# Altium footprint library 2126_AffichageMatriciel.PcbLib: 30 footprints (part 1 of 2)
Each footprint in its own frame and in the unit in brackets; x right, y up, seen from the top. Pads: shape width x height; smd on the part's side, far side on the other; paste and mask are expansions set on the pad; w line width, h text height; cw(c..) or ccw(c..) is an arc to the next point about the centre after c.
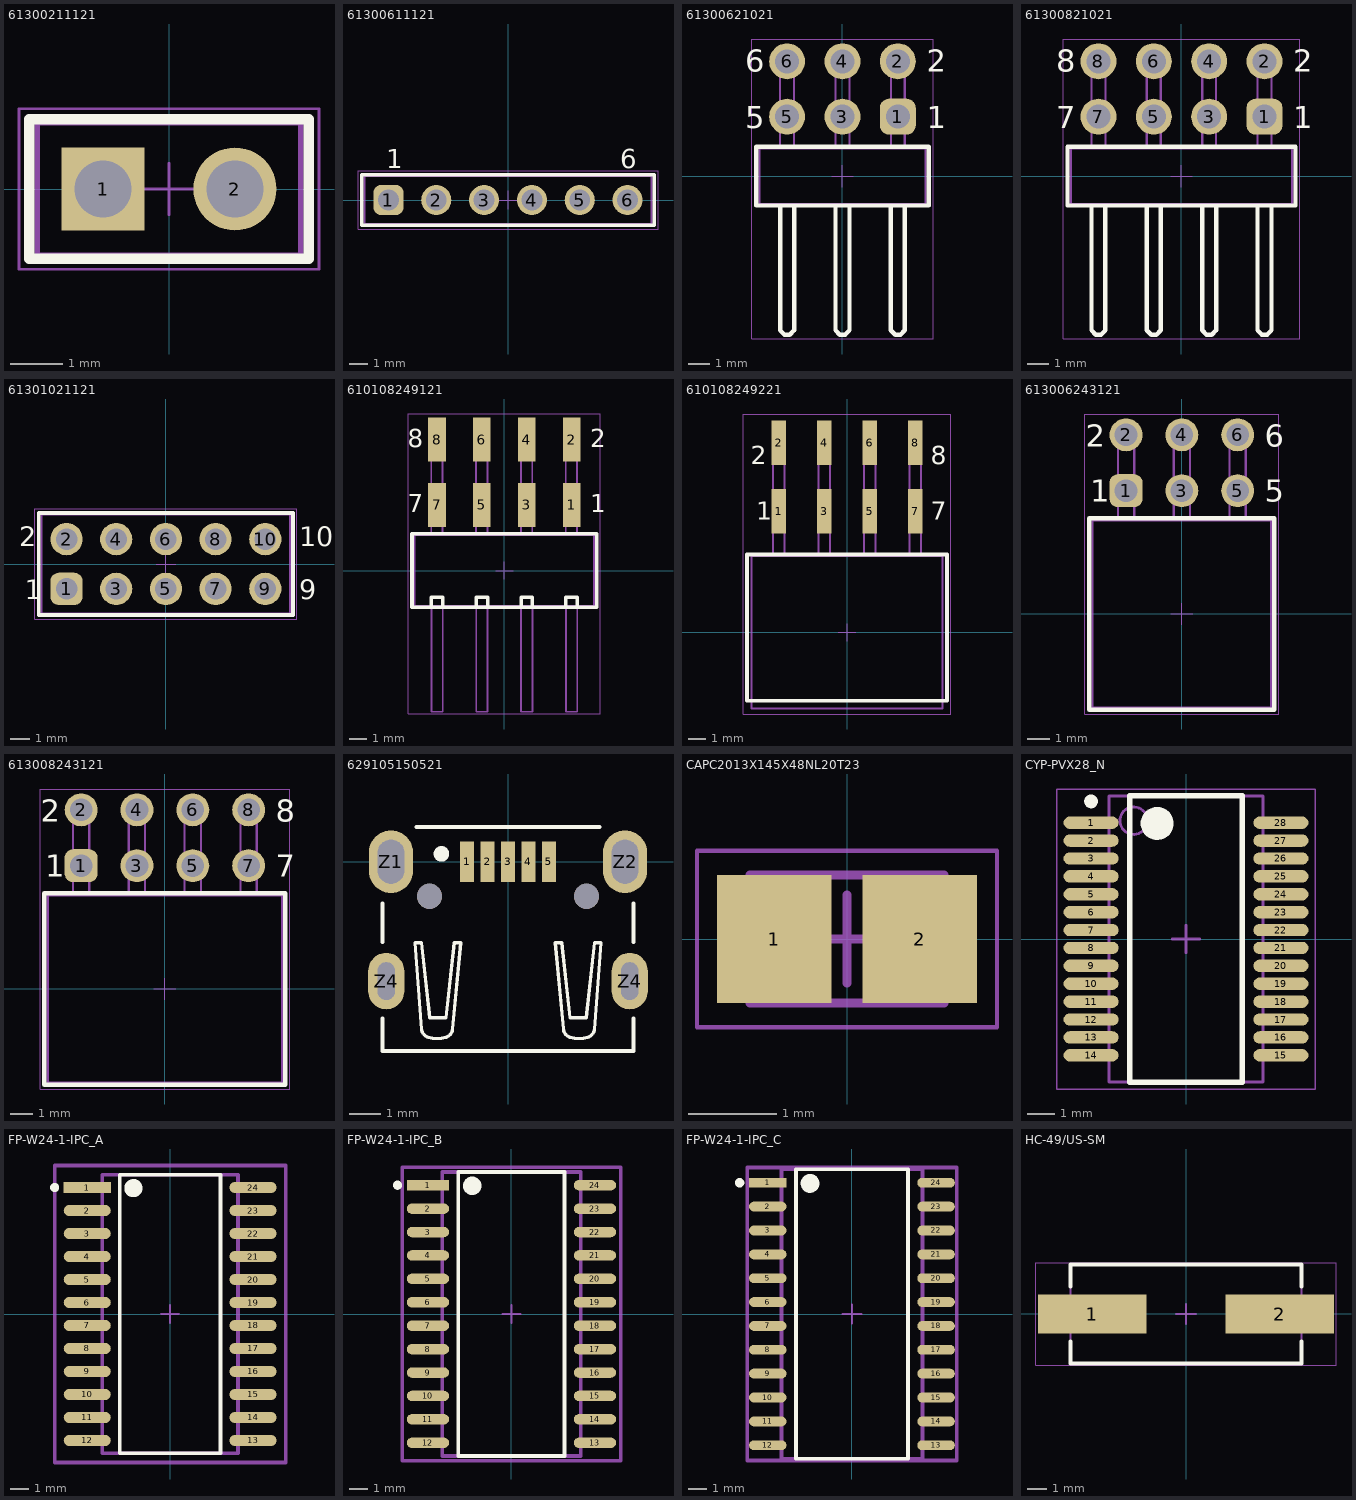
[diagram p0: the footprints below, top view; thin cyan lines are the x and y axes]

## 61300211121 [mm] "Pin Header, pitch 2.54 mm, THT, Vertical, single row, 2p"
height 8.54
pads (2):
  rect 1.6x1.6 hole 1.1: 1(-1.27,0)
  round 1.6 hole 1.1: 2(1.27,0)
Top Overlay:
  lines w0.2: -2.69,-1.345 2.69,-1.345 2.69,1.345 -2.69,1.345 -2.69,-1.345
Mechanical 13:
  lines w0.1: -2.54,-1.27 -2.54,1.27 2.54,1.27 2.54,-1.27 -2.54,-1.27
Mechanical 15:
  lines w0.05: -0.5,0 0.5,0 ; 0,-0.5 0,0.5 ; -2.89,-1.545 -2.89,1.545 2.89,1.545 2.89,-1.545 -2.89,-1.545
3D body "61300211121.stp": height 8.57, standoff -2.97, extent -2.54,-1.27 2.54,1.27

## 61300611121 [mm] "Pin Header, pitch 2.54 mm, THT, Vertical, single row, 6p"
height 8.54
pads (6):
  rrect50% 1.6x1.6 hole 1.1: 1(-6.35,0)
  round 1.6 hole 1.1: 2(-3.81,0) 3(-1.27,0) 4(1.27,0) 5(3.81,0) 6(6.35,0)
Top Overlay:
  lines w0.2: -7.77,-1.345 7.77,-1.345 7.77,1.345 -7.77,1.345 -7.77,-1.345
  text "1" at -6.47,1.7 h1.02
  text "6" at 5.97,1.7 h1.02
Top 3D Body:
  lines w0.1: -7.62,-1.27 -7.62,1.27 7.62,1.27 7.62,-1.27 -7.62,-1.27
Top Assembly:
  lines w0.1: -7.62,-1.27 -7.62,1.27 7.62,1.27 7.62,-1.27 -7.62,-1.27
  text ".Designator" at -7.498,-0.5 h1.5
Top Courtyard:
  lines w0.05: -0.5,0 0.5,0 ; 0,-0.5 0,0.5 ; -7.97,-1.545 -7.97,1.545 7.97,1.545 7.97,-1.545 -7.97,-1.545
3D body "61300611121.stp": height 8.57, standoff -2.97, extent -7.62,-1.27 7.62,1.27

## 61300621021 [mm] "Pin Header, pitch 2.54 mm, THT, Angled, dual row, 6p"
height 5.08
pads (6):
  rrect50% 1.65x1.65 hole 1.1: 1(2.54,2.73)
  round 1.65 hole 1.1: 2(2.54,5.27) 3(0,2.73) 4(0,5.27) 5(-2.54,2.73) 6(-2.54,5.27)
Top Overlay:
  lines w0.2: -2.86,-1.345 -2.86,-7.07 -2.66,-7.27 -2.42,-7.27 -2.22,-7.07 -2.22,-1.345 ; -0.32,-1.345 -0.32,-7.07 -0.12,-7.27 0.12,-7.27 0.32,-7.07 0.32,-1.345 ; 2.22,-1.345 2.22,-7.07 2.42,-7.27 2.66,-7.27 2.86,-7.07 2.86,-1.345 ; -3.96,-1.345 -3.96,1.345 3.96,1.345 3.96,-1.345 -3.96,-1.345
  text "6" at -4.47,4.8 h1.02
  text "5" at -4.47,2.2 h1.02
  text "1" at 3.87,2.2 h1.02
  text "2" at 3.87,4.8 h1.02
Top 3D Body:
  lines w0.1: -2.86,-1.27 -2.86,-7.07 -2.66,-7.27 -2.42,-7.27 -2.22,-7.07 -2.22,-1.27 ; -2.86,1.27 -2.86,5.63 -2.22,5.63 -2.22,1.27 ; -2.86,3.09 -2.22,3.09 ; -0.32,-1.27 -0.32,-7.07 -0.12,-7.27 0.12,-7.27 0.32,-7.07 0.32,-1.27 ; -0.32,1.27 -0.32,5.63 0.32,5.63 0.32,1.27 ; -0.32,3.09 0.32,3.09 ; 2.22,-1.27 2.22,-7.07 2.42,-7.27 2.66,-7.27 2.86,-7.07 2.86,-1.27 ; 2.22,1.27 2.22,5.63 2.86,5.63 2.86,1.27 ; 2.22,3.09 2.86,3.09 ; -3.81,-1.27 3.81,-1.27 3.81,1.27 -3.81,1.27 -3.81,-1.27
Top Assembly:
  lines w0.1: -2.86,-1.27 -2.86,-7.07 -2.66,-7.27 -2.42,-7.27 -2.22,-7.07 -2.22,-1.27 ; -2.86,1.27 -2.86,5.63 -2.22,5.63 -2.22,1.27 ; -2.86,3.09 -2.22,3.09 ; -0.32,-1.27 -0.32,-7.07 -0.12,-7.27 0.12,-7.27 0.32,-7.07 0.32,-1.27 ; -0.32,1.27 -0.32,5.63 0.32,5.63 0.32,1.27 ; -0.32,3.09 0.32,3.09 ; 2.22,-1.27 2.22,-7.07 2.42,-7.27 2.66,-7.27 2.86,-7.07 2.86,-1.27 ; 2.22,1.27 2.22,5.63 2.86,5.63 2.86,1.27 ; 2.22,3.09 2.86,3.09 ; -3.81,-1.27 3.81,-1.27 3.81,1.27 -3.81,1.27 -3.81,-1.27
  text ".Designator" at -7.498,-0.5 h1.5
Top Courtyard:
  lines w0.05: -0.5,0 0.5,0 ; 0,-0.5 0,0.5 ; -4.16,-7.47 -4.16,6.295 4.16,6.295 4.16,-7.47 -4.16,-7.47
3D body "61300621021.stp": height 5.12, standoff -2.96, extent -3.81,-7.27 3.81,5.63

## 61300821021 [mm] "Pin Header, pitch 2.54 mm, THT, Angled, dual row, 8p"
height 5.08
pads (8):
  rrect50% 1.65x1.65 hole 1.1: 1(3.81,2.73)
  round 1.65 hole 1.1: 2(3.81,5.27) 3(1.27,2.73) 4(1.27,5.27) 5(-1.27,2.73) 6(-1.27,5.27) 7(-3.81,2.73) 8(-3.81,5.27)
Top Overlay:
  lines w0.2: -4.13,-1.345 -4.13,-7.07 -3.93,-7.27 -3.69,-7.27 -3.49,-7.07 -3.49,-1.345 ; -1.59,-1.345 -1.59,-7.07 -1.39,-7.27 -1.15,-7.27 -0.95,-7.07 -0.95,-1.345 ; 0.95,-1.345 0.95,-7.07 1.15,-7.27 1.39,-7.27 1.59,-7.07 1.59,-1.345 ; 3.49,-1.345 3.49,-7.07 3.69,-7.27 3.93,-7.27 4.13,-7.07 4.13,-1.345 ; -5.23,-1.345 -5.23,1.345 5.23,1.345 5.23,-1.345 -5.23,-1.345
  text "1" at 5.14,2.2 h1.02
  text "2" at 5.14,4.8 h1.02
  text "7" at -5.74,2.2 h1.02
  text "8" at -5.74,4.8 h1.02
Top 3D Body:
  lines w0.1: -4.13,-1.27 -4.13,-7.07 -3.93,-7.27 -3.69,-7.27 -3.49,-7.07 -3.49,-1.27 ; -4.13,1.27 -4.13,5.63 -3.49,5.63 -3.49,1.27 ; -4.13,3.09 -3.49,3.09 ; -1.59,-1.27 -1.59,-7.07 -1.39,-7.27 -1.15,-7.27 -0.95,-7.07 -0.95,-1.27 ; -1.59,1.27 -1.59,5.63 -0.95,5.63 -0.95,1.27 ; -1.59,3.09 -0.95,3.09 ; 0.95,-1.27 0.95,-7.07 1.15,-7.27 1.39,-7.27 1.59,-7.07 1.59,-1.27 ; 0.95,1.27 0.95,5.63 1.59,5.63 1.59,1.27 ; 0.95,3.09 1.59,3.09 ; 3.49,-1.27 3.49,-7.07 3.69,-7.27 3.93,-7.27 4.13,-7.07 4.13,-1.27 ; 3.49,1.27 3.49,5.63 4.13,5.63 4.13,1.27 ; 3.49,3.09 4.13,3.09 ; -5.08,-1.27 5.08,-1.27 5.08,1.27 -5.08,1.27 -5.08,-1.27
Top Assembly:
  lines w0.1: -4.13,-1.27 -4.13,-7.07 -3.93,-7.27 -3.69,-7.27 -3.49,-7.07 -3.49,-1.27 ; -4.13,1.27 -4.13,5.63 -3.49,5.63 -3.49,1.27 ; -4.13,3.09 -3.49,3.09 ; -1.59,-1.27 -1.59,-7.07 -1.39,-7.27 -1.15,-7.27 -0.95,-7.07 -0.95,-1.27 ; -1.59,1.27 -1.59,5.63 -0.95,5.63 -0.95,1.27 ; -1.59,3.09 -0.95,3.09 ; 0.95,-1.27 0.95,-7.07 1.15,-7.27 1.39,-7.27 1.59,-7.07 1.59,-1.27 ; 0.95,1.27 0.95,5.63 1.59,5.63 1.59,1.27 ; 0.95,3.09 1.59,3.09 ; 3.49,-1.27 3.49,-7.07 3.69,-7.27 3.93,-7.27 4.13,-7.07 4.13,-1.27 ; 3.49,1.27 3.49,5.63 4.13,5.63 4.13,1.27 ; 3.49,3.09 4.13,3.09 ; -5.08,-1.27 -5.08,1.27 5.08,1.27 5.08,-1.27 -5.08,-1.27
  text ".Designator" at -7.498,-0.5 h1.5
Top Courtyard:
  lines w0.05: -0.5,0 0.5,0 ; 0,-0.5 0,0.5 ; -5.43,-7.47 -5.43,6.295 5.43,6.295 5.43,-7.47 -5.43,-7.47
3D body "61300821021.stp": height 5.12, standoff -2.96, extent -5.08,-7.27 5.08,5.63

## 61301021121 [mm] "Pin Header, pitch 2.54 mm, THT, Vertical, dual row, 10p"
height 8.54
pads (10):
  rrect50% 1.65x1.65 hole 1.1: 1(-5.08,-1.27)
  round 1.65 hole 1.1: 2(-5.08,1.27) 3(-2.54,-1.27) 4(-2.54,1.27) 5(0,-1.27) 6(0,1.27) 7(2.54,-1.27) 8(2.54,1.27) 9(5.08,-1.27) 10(5.08,1.27)
Top Overlay:
  lines w0.2: -6.5,-2.615 6.5,-2.615 6.5,2.615 -6.5,2.615 -6.5,-2.615
  text "2" at -7.51,0.9 h1.02
  text "1" at -7.21,-1.8 h1.02
  text "9" at 6.81,-1.8 h1.02
  text "10" at 6.81,0.9 h1.02
Top 3D Body:
  lines w0.1: -6.35,-2.54 6.35,-2.54 6.35,2.54 -6.35,2.54 -6.35,-2.54
Top Assembly:
  lines w0.1: -6.35,-2.54 6.35,-2.54 6.35,2.54 -6.35,2.54 -6.35,-2.54
  text ".Designator" at -7.498,-0.5 h1.5
Top Courtyard:
  lines w0.05: -0.5,0 0.5,0 ; 0,-0.5 0,0.5 ; -6.7,-2.815 -6.7,2.815 6.7,2.815 6.7,-2.815 -6.7,-2.815
3D body "61301021121.stp": height 8.59, standoff -2.95, extent -6.35,-2.54 6.35,2.54

## 610108249121 [mm] "Pin Header, pitch 2.54 mm, SMD, Angled, dual row, 8p"
height 5.08
pads (8):
  rect 1x2.5 smd: 1(3.81,3.72) 2(3.81,7.42) 3(1.27,3.72) 4(1.27,7.42) 5(-1.27,3.72) 6(-1.27,7.42) 7(-3.81,3.72) 8(-3.81,7.42)
Top Overlay:
  lines w0.2: -4.13,-2.075 -4.13,-1.524 -3.49,-1.524 -3.49,-2.075 ; -1.59,-2.075 -1.59,-1.524 -0.95,-1.524 -0.95,-2.075 ; 0.95,-2.075 0.95,-1.524 1.59,-1.524 1.59,-2.075 ; 3.49,-2.075 3.49,-1.524 4.13,-1.524 4.13,-2.075 ; -5.23,-2.075 -5.23,2.075 5.23,2.075 5.23,-2.075 -5.23,-2.075
  text "2" at 4.87,7 h1.02
  text "1" at 4.87,3.3 h1.02
  text "8" at -5.47,7 h1.02
  text "7" at -5.47,3.3 h1.02
Top 3D Body:
  lines w0.1: -4.14,2 -4.14,8.16 ; -4.14,4.135 -4.14,4.26 ; -4.14,4.48 -3.5,4.48 ; -4.14,7.535 -4.14,7.815 -4.14,8.16 ; -4.13,-2 -4.13,-8 -3.49,-8 -3.49,-2 ; -3.5,2 -3.5,8.16 ; -3.5,4.135 -3.5,4.26 ; -3.5,7.535 -3.5,7.815 -3.5,8.16 ; -1.6,2 -1.6,8.16 ; -1.6,4.135 -1.6,4.26 ; -1.6,4.48 -0.96,4.48 ; -1.6,7.535 -1.6,7.815 -1.6,8.16 ; -1.59,-2 -1.59,-8 -0.95,-8 -0.95,-2 ; -0.96,2 -0.96,8.16 ; -0.96,4.135 -0.96,4.26 ; -0.96,7.535 -0.96,7.815 -0.96,8.16 ; 0.94,2 0.94,8.16 ; 0.94,4.135 0.94,4.26 ; 0.94,4.48 1.58,4.48 ; 0.94,7.535 0.94,7.815 0.94,8.16 ; 0.95,-2 0.95,-8 1.59,-8 1.59,-2 ; 1.58,2 1.58,8.16 ; 1.58,4.135 1.58,4.26 ; 1.58,7.535 1.58,7.815 1.58,8.16 ; 3.48,2 3.48,8.16 ; 3.48,4.135 3.48,4.26 ; 3.48,4.48 4.12,4.48 ; 3.48,7.535 3.48,7.815 3.48,8.16 ; 3.49,-2 3.49,-8 4.13,-8 4.13,-2 ; 4.12,2 4.12,8.16 ; 4.12,4.135 4.12,4.26 ; 4.12,7.535 4.12,7.815 4.12,8.16 ; -4.14,8.16 -3.5,8.16 ; -1.6,8.16 -0.96,8.16 ; 0.94,8.16 1.58,8.16 ; 3.48,8.16 4.12,8.16 ; -5.08,-2 -5.08,2 5.08,2 5.08,-2 -5.08,-2
Top Assembly:
  lines w0.1: -4.14,2 -4.14,8.16 ; -4.14,4.135 -4.14,4.26 ; -4.14,4.48 -3.5,4.48 ; -4.14,7.535 -4.14,7.815 -4.14,8.16 ; -4.13,-2 -4.13,-8 -3.49,-8 -3.49,-2 ; -3.5,2 -3.5,8.16 ; -3.5,4.135 -3.5,4.26 ; -3.5,7.535 -3.5,7.815 -3.5,8.16 ; -1.6,2 -1.6,8.16 ; -1.6,4.135 -1.6,4.26 ; -1.6,4.48 -0.96,4.48 ; -1.6,7.535 -1.6,7.815 -1.6,8.16 ; -1.59,-2 -1.59,-8 -0.95,-8 -0.95,-2 ; -0.96,2 -0.96,8.16 ; -0.96,4.135 -0.96,4.26 ; -0.96,7.535 -0.96,7.815 -0.96,8.16 ; 0.94,2 0.94,8.16 ; 0.94,4.135 0.94,4.26 ; 0.94,4.48 1.58,4.48 ; 0.94,7.535 0.94,7.815 0.94,8.16 ; 0.95,-2 0.95,-8 1.59,-8 1.59,-2 ; 1.58,2 1.58,8.16 ; 1.58,4.135 1.58,4.26 ; 1.58,7.535 1.58,7.815 1.58,8.16 ; 3.48,2 3.48,8.16 ; 3.48,4.135 3.48,4.26 ; 3.48,4.48 4.12,4.48 ; 3.48,7.535 3.48,7.815 3.48,8.16 ; 3.49,-2 3.49,-8 4.13,-8 4.13,-2 ; 4.12,2 4.12,8.16 ; 4.12,4.135 4.12,4.26 ; 4.12,7.535 4.12,7.815 4.12,8.16 ; -4.14,8.16 -3.5,8.16 ; -1.6,8.16 -0.96,8.16 ; 0.94,8.16 1.58,8.16 ; 3.48,8.16 4.12,8.16 ; -5.08,-2 -5.08,2 5.08,2 5.08,-2 -5.08,-2
  text ".Designator" at -7.498,-0.5 h1.5
Top Courtyard:
  lines w0.05: -0.5,0 0.5,0 ; 0,-0.5 0,0.5 ; -5.43,-8.125 -5.43,8.87 5.43,8.87 5.43,-8.125 -5.43,-8.125
3D body "610108249121_Download_STP_610108249121_rev1Color.STEP": height 5.1, standoff 0.02, extent -5.08,-8 5.08,8.16

## 610108249221 [mm] "Socket Header, Pitch 2.54 mm, SMT, Angled, dual row, 8p"
height 5.2
pads (8):
  rect 0.8x2.5 smd: 1(-3.81,6.76) 2(-3.81,10.59) 3(-1.27,6.76) 4(-1.27,10.59) 5(1.27,6.76) 6(1.27,10.59) 7(3.81,6.76) 8(3.81,10.59)
Top Overlay:
  lines w0.2: -5.58,-3.81 -5.58,4.35 5.58,4.35 5.58,-3.81 -5.58,-3.81
  text "8" at 4.67,9.4 h1.02
  text "7" at 4.67,6.3 h1.02
  text "2" at -5.37,9.4 h1.02
  text "1" at -5.07,6.3 h1.02
Top 3D Body:
  lines w0.1: -4.13,4.25 -4.13,10.44 -3.49,10.44 -3.49,4.25 ; -4.13,7.49 -3.49,7.49 ; -1.59,4.25 -1.59,10.44 -0.95,10.44 -0.95,4.25 ; -1.59,7.49 -0.95,7.49 ; 0.95,4.25 0.95,10.44 1.59,10.44 1.59,4.25 ; 0.95,7.49 1.59,7.49 ; 3.49,4.25 3.49,10.44 4.13,10.44 4.13,4.25 ; 3.49,7.49 4.13,7.49 ; -5.33,-4.25 5.33,-4.25 5.33,4.25 -5.33,4.25 -5.33,-4.25
Top Assembly:
  lines w0.1: -4.13,4.25 -4.13,10.44 -3.49,10.44 -3.49,4.25 ; -4.13,7.49 -3.49,7.49 ; -1.59,4.25 -1.59,10.44 -0.95,10.44 -0.95,4.25 ; -1.59,7.49 -0.95,7.49 ; 0.95,4.25 0.95,10.44 1.59,10.44 1.59,4.25 ; 0.95,7.49 1.59,7.49 ; 3.49,4.25 3.49,10.44 4.13,10.44 4.13,4.25 ; 3.49,7.49 4.13,7.49 ; -5.33,-4.25 -5.33,4.25 5.33,4.25 5.33,-4.25 -5.33,-4.25
  text ".Designator" at -7.498,-0.5 h1.5
Top Courtyard:
  lines w0.05: -0.5,0 0.5,0 ; 0,-0.5 0,0.5 ; -5.78,-4.55 5.78,-4.55 5.78,12.192 -5.78,12.192 -5.78,-4.55
3D body "m20-7920442_asm.stp": height 5.03, standoff 0.03, extent -5.215,-4.15 5.195,11.25

## 613006243121 [mm] "Socket Header, Pitch 2.54 mm, THT, Angled, dual row, 6p"
height 5.08
pads (6):
  rrect50% 1.5x1.5 hole 1.03: 1(-2.54,5.61)
  round 1.5 hole 1.03: 2(-2.54,8.15) 3(0,5.61) 4(0,8.15) 5(2.54,5.61) 6(2.54,8.15)
Top Overlay:
  lines w0.2: -4.21,-4.35 4.21,-4.35 4.21,4.35 -4.21,4.35 -4.21,-4.35
  text "5" at 3.77,5.1 h1.02
  text "6" at 3.77,7.6 h1.02
  text "1" at -4.17,5.1 h1.02
  text "2" at -4.37,7.6 h1.02
Top 3D Body:
  lines w0.1: -2.91,4.25 -2.91,8.35 -2.17,8.35 -2.17,4.25 ; -2.91,5.81 -2.17,5.81 ; -0.37,4.25 -0.37,8.35 0.37,8.35 0.37,4.25 ; -0.37,5.81 0.37,5.81 ; 2.17,4.25 2.17,8.35 2.91,8.35 2.91,4.25 ; 2.17,5.81 2.91,5.81 ; -4.06,-4.25 4.06,-4.25 4.06,4.25 -4.06,4.25 -4.06,-4.25
Top Assembly:
  lines w0.1: -2.91,4.25 -2.91,8.35 -2.17,8.35 -2.17,4.25 ; -2.91,5.81 -2.17,5.81 ; -0.37,4.25 -0.37,8.35 0.37,8.35 0.37,4.25 ; -0.37,5.81 0.37,5.81 ; 2.17,4.25 2.17,8.35 2.91,8.35 2.91,4.25 ; 2.17,5.81 2.91,5.81 ; -4.06,-4.25 -4.06,4.25 4.06,4.25 4.06,-4.25 -4.06,-4.25
  text ".Designator" at -7.498,-0.5 h1.5
Top Courtyard:
  lines w0.05: -0.5,0 0.5,0 ; 0,-0.5 0,0.5 ; -4.41,-4.55 -4.41,9.1 4.41,9.1 4.41,-4.55 -4.41,-4.55
3D body "613006243121.stp": height 5.05, standoff -3.25, extent -4.06,-4.25 4.06,8.35

## 613008243121 [mm] "Socket Header, Pitch 2.54 mm, THT, Angled, dual row, 8p"
height 5.08
pads (8):
  rrect50% 1.5x1.5 hole 1.03: 1(-3.81,5.61)
  round 1.5 hole 1.03: 2(-3.81,8.15) 3(-1.27,5.61) 4(-1.27,8.15) 5(1.27,5.61) 6(1.27,8.15) 7(3.81,5.61) 8(3.81,8.15)
Top Overlay:
  lines w0.2: -5.48,-4.35 5.48,-4.35 5.48,4.35 -5.48,4.35 -5.48,-4.35
  text "7" at 5.04,5.1 h1.02
  text "8" at 5.04,7.6 h1.02
  text "1" at -5.44,5.1 h1.02
  text "2" at -5.64,7.6 h1.02
Top 3D Body:
  lines w0.1: -4.18,4.25 -4.18,8.35 -3.44,8.35 -3.44,4.25 ; -4.18,5.81 -3.44,5.81 ; -1.64,4.25 -1.64,8.35 -0.9,8.35 -0.9,4.25 ; -1.64,5.81 -0.9,5.81 ; 0.9,4.25 0.9,8.35 1.64,8.35 1.64,4.25 ; 0.9,5.81 1.64,5.81 ; 3.44,4.25 3.44,8.35 4.18,8.35 4.18,4.25 ; 3.44,5.81 4.18,5.81 ; -5.33,-4.25 5.33,-4.25 5.33,4.25 -5.33,4.25 -5.33,-4.25
Top Assembly:
  lines w0.1: -4.18,4.25 -4.18,8.35 -3.44,8.35 -3.44,4.25 ; -4.18,5.81 -3.44,5.81 ; -1.64,4.25 -1.64,8.35 -0.9,8.35 -0.9,4.25 ; -1.64,5.81 -0.9,5.81 ; 0.9,4.25 0.9,8.35 1.64,8.35 1.64,4.25 ; 0.9,5.81 1.64,5.81 ; 3.44,4.25 3.44,8.35 4.18,8.35 4.18,4.25 ; 3.44,5.81 4.18,5.81 ; -5.33,-4.25 5.33,-4.25 5.33,4.25 -5.33,4.25 -5.33,-4.25
  text ".Designator" at -7.498,-0.5 h1.5
Top Courtyard:
  lines w0.05: -0.5,0 0.5,0 ; 0,-0.5 0,0.5 ; -5.68,-4.55 -5.68,9.1 5.68,9.1 5.68,-4.55 -5.68,-4.55
3D body "613008243121.stp": height 5.05, standoff -3.25, extent -5.33,-4.25 5.33,8.35

## 629105150521 [mm] "WR-COM_USB_Micro Type B_Horizontal_SMT Micro Type B Horizontal SMT - 3A current at Pin1 & Pin 5 - with Pegs and THT shielding Pins  - T&R Packaging"
height 2.6
pads (11):
  rect 0.45x1.3 smd: 1(-1.3,0) 2(-0.65,0) 3(0,0) 4(0.65,0) 5(1.3,0)
  oval 1.4x2 hole 0.85 slot 1.4 at 90 deg: Z1(-3.725,0) Z2(3.725,0)
  oval 1.15x1.8 hole 0.55 slot 1.2 at 90 deg: Z4(-3.875,-3.8) Z4(3.875,-3.8)
  round 0.8 hole 0.8 unplated: ""(-2.5,-1.1) ""(2.5,-1.1)
Top Overlay:
  circle w0.254: c-2.12,0.25 r0.12
  lines w0.102: -2.751,-5.328 -2.959,-2.577 -2.751,-2.577 -2.492,-4.965 -1.973,-4.965 -1.713,-2.577 -1.505,-2.577 -1.765,-5.328 ; -2.751,-5.328 ccw(c-2.457,-5.306) -2.544,-5.588 ccw(c-2.258,-4.657) -1.973,-5.588 ccw(c-2.059,-5.306) -1.765,-5.328 ; 1.765,-5.328 1.505,-2.577 1.713,-2.577 1.973,-4.965 2.492,-4.965 2.751,-2.577 2.959,-2.577 2.751,-5.328 ; 1.765,-5.328 ccw(c2.059,-5.306) 1.973,-5.588 ccw(c2.258,-4.657) 2.544,-5.588 ccw(c2.457,-5.306) 2.751,-5.328
  lines w0.127: -4,-4.984 -4,-6.02 4,-6.02 4,-4.984 ; -4,-2.551 -4,-1.334 ; -2.91,1.1 2.91,1.1 ; 4,-2.551 4,-1.334
3D body "629105150521.stp": height 2.67, standoff -0.89, extent -4.001,-6.25 3.999,0.353

## CAPC2013X145X48NL20T23 [mm] "Chip Capacitor, 2-Leads, Body 2.00x1.25mm, IPC Medium Density"
height 1.45
pads (2):
  rect 1.3x1.45 smd: 1(-0.825,0) 2(0.825,0)
Mechanical 13:
  lines w0.1: -1.1,-0.725 -1.1,0.725 1.1,0.725 1.1,-0.725 -1.1,-0.725
Mechanical 15:
  lines w0.05: -1.7,-1 -1.7,1 1.7,1 1.7,-1 -1.7,-1
  lines w0.1: -0.5,0 0.5,0 ; 0,-0.5 0,0.5
3D body: height 1.45, standoff 0, extent -0.62,-0.725 0.62,0.725
3D body: height 1.45, standoff 0, extent -1.1,-0.725 -0.62,0.725
3D body: height 1.45, standoff 0, extent 0.62,-0.725 1.1,0.725

## CYP-PVX28_N [mm] "SOP, 28-Leads, Body 10.2x5.3mm, Pitch 0.65mm, IPC Medium Density"
height 2
pads (28):
  oval 2x0.45 smd: 1(-3.45,4.225) 2(-3.45,3.575) 3(-3.45,2.925) 4(-3.45,2.275) 5(-3.45,1.625) 6(-3.45,0.975) 7(-3.45,0.325) 8(-3.45,-0.325) 9(-3.45,-0.975) 10(-3.45,-1.625) 11(-3.45,-2.275) 12(-3.45,-2.925) 13(-3.45,-3.575) 14(-3.45,-4.225) 15(3.45,-4.225) 16(3.45,-3.575) 17(3.45,-2.925) 18(3.45,-2.275) 19(3.45,-1.625) 20(3.45,-0.975) 21(3.45,-0.325) 22(3.45,0.325) 23(3.45,0.975) 24(3.45,1.625) 25(3.45,2.275) 26(3.45,2.925) 27(3.45,3.575) 28(3.45,4.225)
Top Overlay:
  circle w0.25: c-3.45,5 r0.125
  circle w0.6: c-1.05,4.2 r0.3
  lines w0.2: -2.05,-5.2 -2.05,5.2 2.05,5.2 2.05,-5.2 -2.05,-5.2
Mechanical 13:
  circle w0.1: c-1.9,4.3 r0.5
  lines w0.1: -2.8,-5.2 -2.8,5.2 2.8,5.2 2.8,-5.2 -2.8,-5.2
Mechanical 15:
  lines w0.05: -4.7,-5.45 -4.7,5.45 4.7,5.45 4.7,-5.45 -4.7,-5.45
  lines w0.1: -0.5,0 0.5,0 ; 0,-0.5 0,0.5
3D body "DAC8820IBDB.STEP": height 1.75, standoff 0, extent -3,-4.95 3,4.95

## FP-W24-1-IPC_A [mm]
pads (24):
  rect 2.598x0.607 smd paste+0 mask+0: 1(-4.578,6.985)
  rrect100% 2.598x0.607 smd paste+0 mask+0: 2(-4.578,5.715) 3(-4.578,4.445) 4(-4.578,3.175) 5(-4.578,1.905) 6(-4.578,0.635) 7(-4.578,-0.635) 8(-4.578,-1.905) 9(-4.578,-3.175) 10(-4.578,-4.445) 11(-4.578,-5.715) 12(-4.578,-6.985) 13(4.578,-6.985) 14(4.578,-5.715) 15(4.578,-4.445) 16(4.578,-3.175) 17(4.578,-1.905) 18(4.578,-0.635) 19(4.578,0.635) 20(4.578,1.905) 21(4.578,3.175) 22(4.578,4.445) 23(4.578,5.715) 24(4.578,6.985)
Top Overlay:
  circle w0.5: c-2.029,6.95 r0.25
  circle w0.25: c-6.377,6.985 r0.125
  lines w0.2: -2.779,-7.7 2.779,-7.7 2.779,7.7 -2.779,7.7 -2.779,-7.7
Top 3D Body:
  lines w0.2: -3.75,-7.7 3.75,-7.7 3.75,7.7 -3.75,7.7 -3.75,-7.7
Top Assembly:
  lines w0.2: -6.377,-8.2 6.377,-8.2 6.377,8.2 -6.377,8.2 -6.377,-8.2
  text ".Designator" at 0,0.188 h1
Top Courtyard:
  lines w0.2: -6.377,-8.2 6.377,-8.2 6.377,8.2 -6.377,8.2 -6.377,-8.2
Top Component Center:
  lines w0.1: -0.5,0 0.5,0 ; 0,-0.5 0,0.5
3D body "IC_Maxim_Integrated_MAX7221CWG+_eec.STEP": height 0.25, standoff 0, extent -6.377,-8.2 6.377,8.2

## FP-W24-1-IPC_B [mm]
pads (24):
  rect 2.298x0.567 smd paste+0 mask+0: 1(-4.528,6.985)
  rrect100% 2.298x0.567 smd paste+0 mask+0: 2(-4.528,5.715) 3(-4.528,4.445) 4(-4.528,3.175) 5(-4.528,1.905) 6(-4.528,0.635) 7(-4.528,-0.635) 8(-4.528,-1.905) 9(-4.528,-3.175) 10(-4.528,-4.445) 11(-4.528,-5.715) 12(-4.528,-6.985) 13(4.528,-6.985) 14(4.528,-5.715) 15(4.528,-4.445) 16(4.528,-3.175) 17(4.528,-1.905) 18(4.528,-0.635) 19(4.528,0.635) 20(4.528,1.905) 21(4.528,3.175) 22(4.528,4.445) 23(4.528,5.715) 24(4.528,6.985)
Top Overlay:
  circle w0.25: c-6.177,6.985 r0.125
  circle w0.5: c-2.129,6.95 r0.25
  lines w0.2: -2.879,-7.7 -2.879,7.7 2.879,7.7 2.879,-7.7 -2.879,-7.7
Top 3D Body:
  lines w0.2: -3.75,-7.7 -3.75,7.7 3.75,7.7 3.75,-7.7 -3.75,-7.7
Top Assembly:
  lines w0.2: -5.927,-7.95 -5.927,7.95 5.927,7.95 5.927,-7.95 -5.927,-7.95
  text ".Designator" at 0,0.188 h1
Top Courtyard:
  lines w0.2: -5.927,-7.95 -5.927,7.95 5.927,7.95 5.927,-7.95 -5.927,-7.95
Top Component Center:
  lines w0.1: -0.5,0 0.5,0 ; 0,-0.5 0,0.5
3D body "IC_Maxim_Integrated_MAX7221CWG+_eec.STEP": height 0.25, standoff 0, extent -5.927,-7.95 5.927,7.95

## FP-W24-1-IPC_C [mm]
pads (24):
  rect 1.998x0.527 smd paste+0 mask+0: 1(-4.478,6.985)
  rrect100% 1.998x0.527 smd paste+0 mask+0: 2(-4.478,5.715) 3(-4.478,4.445) 4(-4.478,3.175) 5(-4.478,1.905) 6(-4.478,0.635) 7(-4.478,-0.635) 8(-4.478,-1.905) 9(-4.478,-3.175) 10(-4.478,-4.445) 11(-4.478,-5.715) 12(-4.478,-6.985) 13(4.478,-6.985) 14(4.478,-5.715) 15(4.478,-4.445) 16(4.478,-3.175) 17(4.478,-1.905) 18(4.478,-0.635) 19(4.478,0.635) 20(4.478,1.905) 21(4.478,3.175) 22(4.478,4.445) 23(4.478,5.715) 24(4.478,6.985)
Top Overlay:
  circle w0.5: c-2.229,6.95 r0.25
  circle w0.25: c-5.977,6.985 r0.125
  lines w0.2: -2.979,-7.7 2.979,-7.7 2.979,7.7 -2.979,7.7 -2.979,-7.7
Top 3D Body:
  lines w0.2: -3.75,-7.7 3.75,-7.7 3.75,7.7 -3.75,7.7 -3.75,-7.7
Top Assembly:
  lines w0.2: -5.577,-7.8 5.577,-7.8 5.577,7.8 -5.577,7.8 -5.577,-7.8
  text ".Designator" at 0,0.188 h1
Top Courtyard:
  lines w0.2: -5.577,-7.8 5.577,-7.8 5.577,7.8 -5.577,7.8 -5.577,-7.8
Top Component Center:
  lines w0.1: -0.5,0 0.5,0 ; 0,-0.5 0,0.5
3D body "IC_Maxim_Integrated_MAX7221CWG+_eec.STEP": height 0.25, standoff 0, extent -5.577,-7.8 5.577,7.8

## HC-49/US-SM [mm] "SMD, 2-Leads, Body 5x11.7mm"
height 4.5
pads (2):
  rect 5.5x2 smd: 1(-4.75,0) 2(4.75,0)
Top Overlay:
  lines w0.2: -5.85,-1.4 -5.85,-2.5 5.85,-2.5 5.85,-1.4 ; -5.85,1.4 -5.85,2.5 5.85,2.5 5.85,1.4
Mechanical 13:
  lines w0.1: -5.85,-2.5 -5.85,2.5 5.85,2.5 5.85,-2.5 -5.85,-2.5
Mechanical 15:
  lines w0.05: -7.6,-2.6 -7.6,2.6 7.6,2.6 7.6,-2.6 -7.6,-2.6
  lines w0.1: -0.5,0 0.5,0 ; 0,-0.5 0,0.5
3D body "User Library-HC-49S.STEP": height 4.34, standoff -0.01, extent -6.15,-2.35 6.15,2.35